# EAGLE library part 662016235922 (library Wurth_Elektronik_Electromechanic_Wire_to_Board_Connectors_rev16a)
WR-MPC3 3.00mm Male Dual Row SMT Vertical Header with Through Hole Retention Clip, 16 Pins=>Code : Con_WTB_MPC3_2_PCB_SMT_662016235922 <http://katalog.we-online.de/media/thumbs2/eican/thb_Con_WTB_MPC3_2_PCB_SMT_6620xx235922_pf2.jpg> Details see: http://katalog.we-online.de/en/em/662_0xx_235_922 Created 2014-06-06, Karrer Zheng 2014 (C) Würth Elektronik
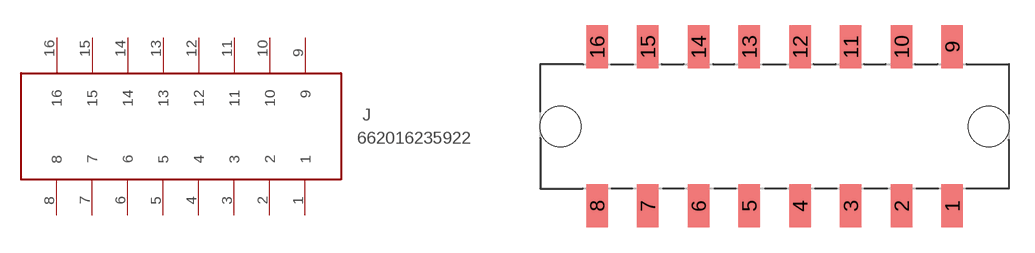
[diagram p379: symbol with the pads of 662016235922; footprint 662016235922]

Designator prefix J

## 662016235922  [662016235922]
1  1
2  2
3  3
4  4
5  5
6  6
7  7
8  8
9  9
10  10
11  11
12  12
13  13
14  14
15  15
16  16

## Footprint 662016235922 (pad centres in mm)
WR-MPC3 3.00mm Male Dual Row SMT Vertical Header with Through Hole Retention Clip, 16 Pins
smd 1.27 x 2.54: 1 10.5,-4.7; 2 7.5,-4.7; 3 4.5,-4.7; 4 1.5,-4.7; 5 -1.5,-4.7; 6 -4.5,-4.7; 7 -7.5,-4.7; 8 -10.5,-4.7; 9 10.5,4.7; 10 7.5,4.7; 11 4.5,4.7; 12 1.5,4.7; 13 -1.5,4.7; 14 -4.5,4.7; 15 -7.5,4.7; 16 -10.5,4.7
hole 2.41 at 12.66,0
hole 2.41 at -12.66,0